# Altium integrated library Analog Devices RF IF Timing ICs and Clocks.IntLib: 168 symbols (part 12 of 18)
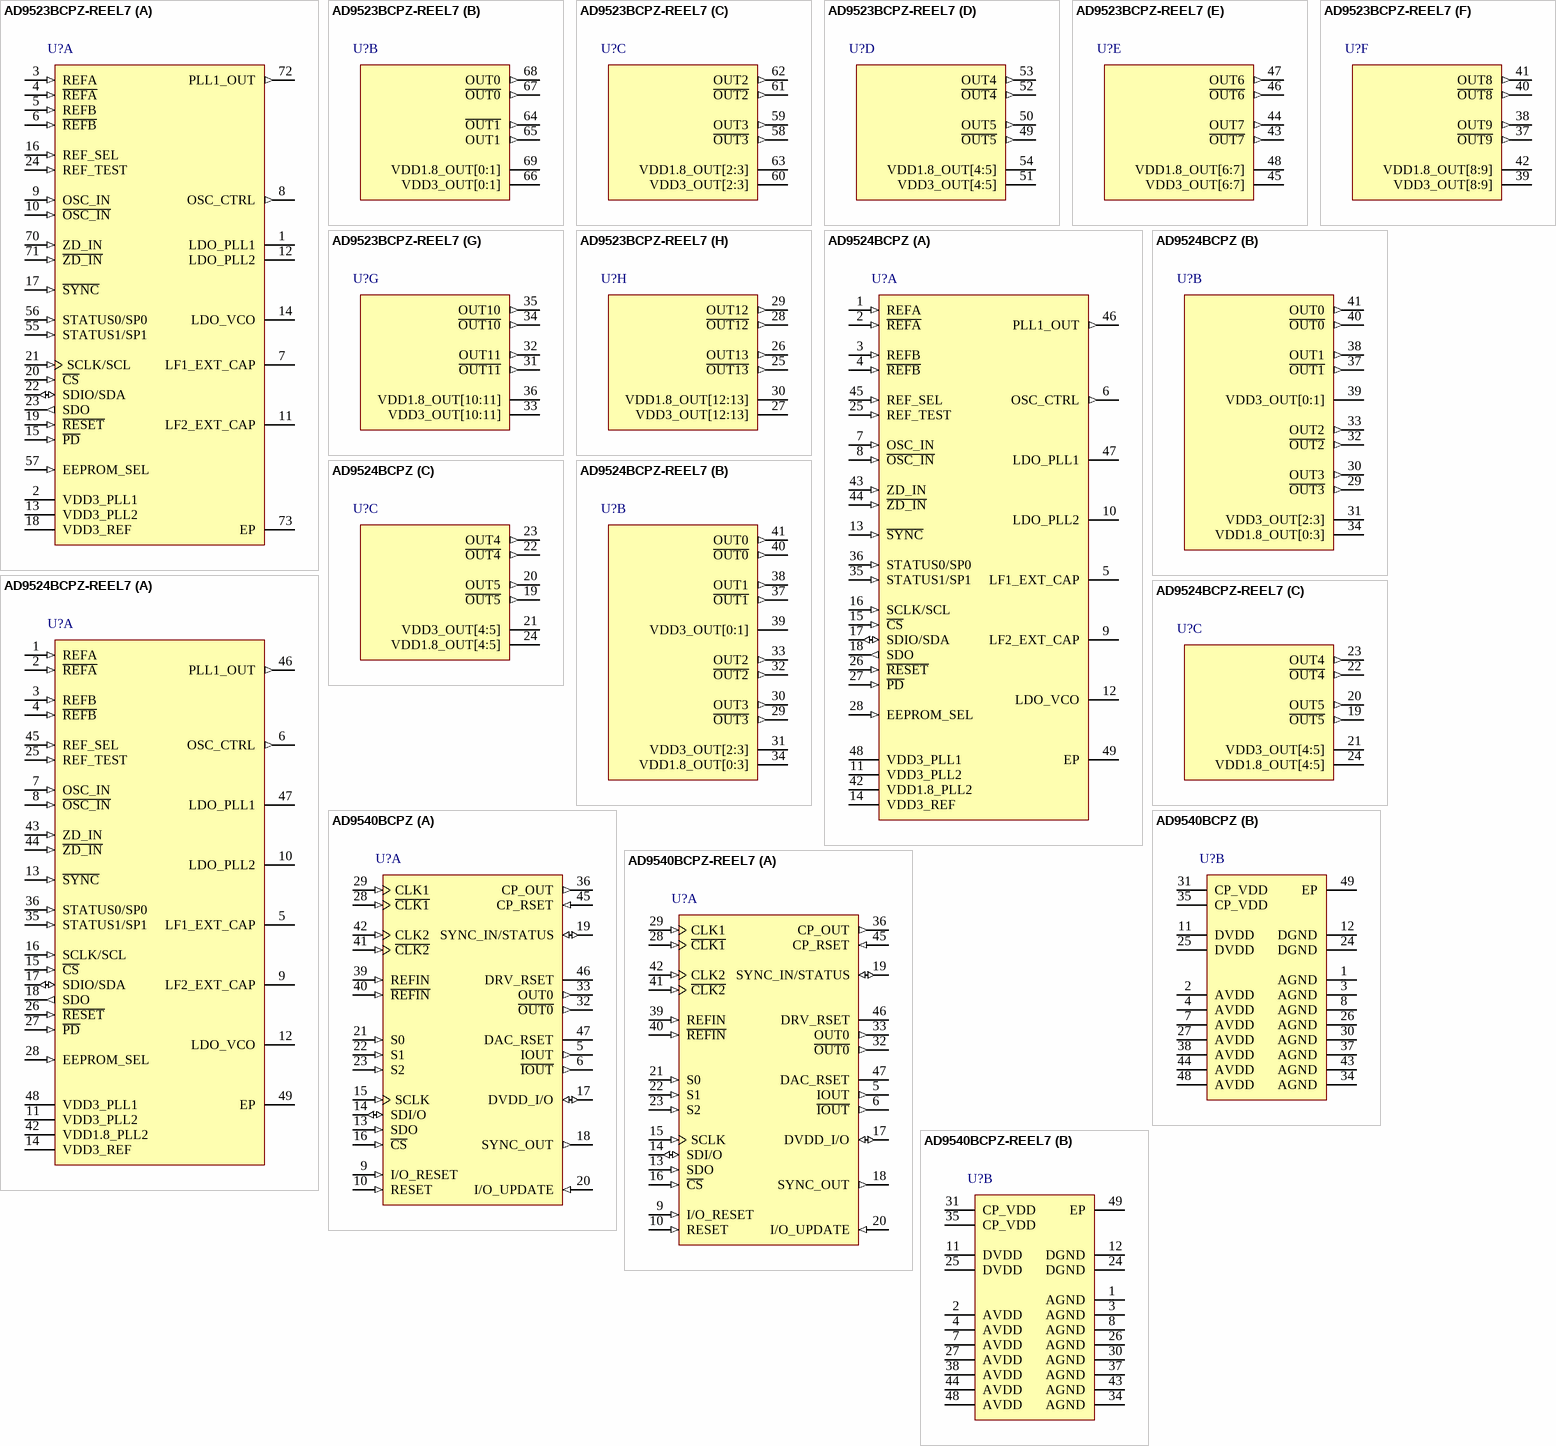
[diagram p26: symbols AD9523BCPZ-REEL7 to AD9540BCPZ-REEL7]

## AD9524BCPZ
designator U?
Low Jitter Clock Generator with 6 LVPECL/LVDS/HSTL/13 LVCMOS Outputs, CP-48-1, Pb-Free, 260 Tray; Product Description: Low Jitter, Dual loop Clock Generator; +Supply Voltage (V): 3.3; Inputs: 2; Outputs: 14; On-Chip VCO or DCO: Yes; Max f-out (MHz): 1000; Output Logic: CMOS; HSTL; LVDS; LVPECL; DatasheetVersion: Rev. C; PackageVersion: Jan-2005; PackageReference: CP-48-1; PackageDescription: 48-Lead Lead Frame Chip Scale Package [LFCSP_VQ]; Code_JEDEC: MO-220-VKKD-2; ComponentLink1Description: Manufacturer URL; ComponentLink1URL: www.analog.com; ComponentLink2Description: Datasheet; ComponentLink2URL: http://www.analog.com/static/imported-files/data_sheets/AD9524.pdf; ComponentLink3Description: Package Specification; ComponentLink3URL: http://www.analog.com/static/imported-files/packages/PKG_PDF/LFCSP(CP)/CP-48/CP_48_1.pdf
footprint ADI-CP-48-1_N (QFN, 48-Leads, Body 7x7mm, Pitch 0.5mm, Thermal Pad 5.1x5.1mm, IPC Medium Density)
footprint ADI-CP-48-1_L (QFN, 48-Leads, Body 7x7mm, Pitch 0.5mm, Thermal Pad 5.1x5.1mm, IPC High Density)
footprint ADI-CP-48-1_M (QFN, 48-Leads, Body 7x7mm, Pitch 0.5mm, Thermal Pad 5.1x5.1mm, IPC Low Density)
part A pins: 1 REFA (in) "Reference Clock Input A. Along with R\E\F\A\, this pin is the differential input for the PLL reference. Alternatively, this pin can be programmed as a single-ended 3.3 V CMOS input.", 2 ~{REFA} (in) "Complementary Reference Clock Input A. Along with REFA, this pin is the differential input for the PLL reference. Alternatively, this pin can be programmed as a single-ended 3.3V CMOS input.", 3 REFB (in) "Reference Clock Input B. Along with R\E\F\B\, this pin is the differential input for the PLL reference.Alternatively, this pin can be programmed as a single-ended 3.3 V CMOS input.", 4 ~{REFB} (in) "Complementary Reference Clock Input B. Along with REFB, this pin is the differential input for the PLL reference. Alternatively, this pin can be programmed as a single-ended 3.3 V CMOS input.", 5 LF1_EXT_CAP "PLL1 External Loop Filter Capacitor. Connect this pin to ground.", 6 OSC_CTRL (out) "Oscillator Control Voltage. Connect to the voltage control pin of the external oscillator.", 7 OSC_IN (in) "PLL1 Oscillator Input. Along with O\S\C\_\I\N\, this pin is the differential input for the PLL reference.Alternatively, this pin can be programmed as a single-ended 3.3 V CMOS input.", 8 ~{OSC_IN} (in) "Complementary PLL1 Oscillator Input. Along with OSC_IN, this pin is the differential input for the PLL reference. Alternatively, this pin can be programmed as a single-ended 3.3 V CMOS input.", 9 LF2_EXT_CAP "PLL2 External Loop Filter Capacitor. Connect this pin to the LDO_VCO pin.", 10 LDO_PLL2 "LDO Decoupling Pin for PLL2 1.8 V Internal Regulator. Connect a 0.47 uF decoupling capacitor from this pin to ground. Note that for best performance, the LDO bypass capacitor must be placed in close proximity to the device.", 11 VDD3_PLL2 (power) "3.3 V Supply for PLL2.", 12 LDO_VCO "2.5 V LDO Internal Regulator Decoupling Pin for VCO. Connect a 0.47 uF decoupling capacitor from this pin to ground. Note that, for best performance, the LDO bypass capacitor must be placed in close proximity to the device.", 13 ~{SYNC} (in) "Manual Synchronization. This pin initiates a manual synchronization and has an internal 40 K ohm pull-up resistor.", 14 VDD3_REF (power) "3.3 V Supply for Output Clock Drivers Reference.", 15 ~{CS} (in) "Serial Control Port Chip Select, Active Low. This pin has an internal 40 K ohm pull-up resistor.", 16 SCLK/SCL (in) "Serial Control Port Clock Signal for SPI Mode (SCLK) or I2C Mode (SCL). Data clock for serial programming. This pin has an internal 40 K ohm pull-down resistor in SPI mode but is high impedance in I2C mode.", 17 SDIO/SDA (io) "Serial Control Port Bidirectional Serial Data In/Out for SPI Mode (SDIO) or I2C Mode (SDA).", 18 SDO (out) "Serial Data Output. Use this pin to read data in 4-wire mode (high impedance in 3-wire mode). There is no internal pull-up/pull-down resistor on this pin.", 25 REF_TEST (in) "Test Input to PLL1 Phase Detector.", 26 ~{RESET} (in) "Digital Input, Active Low. Resets internal logic to default states. This pin has an internal 40 K ohm pull-up resistor.", 27 ~{PD} (in) "Chip Power-Down, Active Low. This pin has an internal 40 K ohm pull-up resistor.", 28 EEPROM_SEL (in) "EEPROM Select. Setting this pin high selects the register values stored in the internal EEPROM to be loaded at reset and/or power-up. Setting this pin low causes the AD9524 to load the hard- coded default register values at power-up/reset. This pin has a", 35 STATUS1/SP1 (in) "Lock Detect and Other Status Signals (STATUS1)/I2C Address (SP1).", 36 STATUS0/SP0 (in) "Lock Detect and Other Status Signals (STATUS0)/I2C Address (SP0).", 42 VDD1.8_PLL2 (power) "1.8 V Supply for PLL2.", 43 ZD_IN (in) "External Zero Delay Clock Input. Along with Z\D\_\I\N\, this pin is the differential input for the PLL reference. Alternatively, this pin can be programmed as a single-ended 3.3 V CMOS input.", 44 ~{ZD_IN} (in) "Complementary External Zero Delay Clock Input. Along with ZD_IN, this pin is the differential input for the PLL reference. Alternatively, this pin can be programmed as a single-ended 3.3 V CMOS input.", 45 REF_SEL (in) "Reference Input Select. This pin has an internal 40 K ohm pull-down resistor.", 46 PLL1_OUT (out) "Single-Ended CMOS Output from PLL1. This pin has settings for weak and strong in Register 0x1BA, Bit 4 (see Table 51).", 47 LDO_PLL1 "1.8 V Internal LDO Regulator Decoupling Pin for PLL1. Connect a 0.47 uF decoupling capacitor from this pin to ground. Note that, for best performance, the LDO bypass capacitor must be placed in close proximity to the device.", 48 VDD3_PLL1 (power) "3.3 V Supply PLL1. Use the same supply as VCXO.", 49 EP (power) "Exposed Paddle. The exposed paddle is the ground connection on the chip. It must be soldered to the analog ground of the PCB to ensure proper functionality and heat dissipation, noise, and mechanical strength benefits."
part B pins: 29 ~{OUT3} (out) "Complementary Clock Output 3. This pin can be configured as one side of a differential LVPECL/ LVDS/HSTL output or as a single-ended CMOS output.", 30 OUT3 (out) "Square Wave Clocking Output 3. This pin can be configured as one side of a differential LVPECL/ LVDS/HSTL output or as a single-ended CMOS output.", 31 VDD3_OUT[2:3] (power) "3.3 V Supply Output 2 and Supply Output 3 Clock Drivers.", 32 ~{OUT2} (out) "Complementary Clock Output 2. This pin can be configured as one side of a differential LVPECL/ LVDS/HSTL output or as a single-ended CMOS output.", 33 OUT2 (out) "Clock Output 2. This pin can be configured as one side of a differential LVPECL/LVDS/HSTL output or as a single-ended CMOS output.", 34 VDD1.8_OUT[0:3] (power) "1.8 V Supply for Output 0, Output 1, Output 2, and Output 3 Clock Dividers.", 37 ~{OUT1} (out) "Complementary Clock Output 1. This pin can be configured as one side of a differential LVPECL/ LVDS/HSTL output or as a single-ended CMOS output.", 38 OUT1 (out) "Clock Output 1. This pin can be configured as one side of a differential LVPECL/LVDS/HSTL output or as a single-ended CMOS output.", 39 VDD3_OUT[0:1] (power) "3.3 V Supply Output 0 and Supply Output 1 Clock Drivers.", 40 ~{OUT0} (out) "Complementary Clock Output 0. This pin can be configured as one side of a differential LVPECL/ LVDS/HSTL output or as a single-ended CMOS output.", 41 OUT0 (out) "Clock Output 0. This pin can be configured as one side of a differential LVPECL/LVDS/HSTL output or as a single-ended CMOS output."
part C pins: 19 ~{OUT5} (out) "Complementary Clock Output 5. This pin can be configured as one side of a differential LVPECL/ LVDS/HSTL output or as a single-ended CMOS output.", 20 OUT5 (out) "Clock Output 5. This pin can be configured as one side of a differential LVPECL/LVDS/HSTL output or as a single-ended CMOS output.", 21 VDD3_OUT[4:5] (power) "3.3 V Supply for Output 4 and Output 5 Clock Drivers.", 22 ~{OUT4} (out) "Complementary Clock Output 4. This pin can be configured as one side of a differential LVPECL/ LVDS/HSTL output or as a single-ended CMOS output.", 23 OUT4 (out) "Clock Output 4. This pin can be configured as one side of a differential LVPECL/LVDS/HSTL output or as a single-ended CMOS output.", 24 VDD1.8_OUT[4:5] (power) "1.8 V Supply for Output 4 and Output 5 Clock Dividers."

## AD9524BCPZ-REEL7
designator U?
Low Jitter Clock Generator with 6 LVPECL/LVDS/HSTL/13 LVCMOS Outputs, CP-48-1, Pb-Free, 750 Reel; Product Description: Low Jitter, Dual loop Clock Generator; +Supply Voltage (V): 3.3; Inputs: 2; Outputs: 14; On-Chip VCO or DCO: Yes; Max f-out (MHz): 1000; Output Logic: CMOS; HSTL; LVDS; LVPECL; DatasheetVersion: Rev. C; PackageVersion: Jan-2005; PackageReference: CP-48-1; PackageDescription: 48-Lead Lead Frame Chip Scale Package [LFCSP_VQ]; Code_JEDEC: MO-220-VKKD-2; ComponentLink1Description: Manufacturer URL; ComponentLink1URL: www.analog.com; ComponentLink2Description: Datasheet; ComponentLink2URL: http://www.analog.com/static/imported-files/data_sheets/AD9524.pdf; ComponentLink3Description: Package Specification; ComponentLink3URL: http://www.analog.com/static/imported-files/packages/PKG_PDF/LFCSP(CP)/CP-48/CP_48_1.pdf
footprint ADI-CP-48-1_N (QFN, 48-Leads, Body 7x7mm, Pitch 0.5mm, Thermal Pad 5.1x5.1mm, IPC Medium Density)
footprint ADI-CP-48-1_L (QFN, 48-Leads, Body 7x7mm, Pitch 0.5mm, Thermal Pad 5.1x5.1mm, IPC High Density)
footprint ADI-CP-48-1_M (QFN, 48-Leads, Body 7x7mm, Pitch 0.5mm, Thermal Pad 5.1x5.1mm, IPC Low Density)
part A pins: 1 REFA (in) "Reference Clock Input A. Along with R\E\F\A\, this pin is the differential input for the PLL reference. Alternatively, this pin can be programmed as a single-ended 3.3 V CMOS input.", 2 ~{REFA} (in) "Complementary Reference Clock Input A. Along with REFA, this pin is the differential input for the PLL reference. Alternatively, this pin can be programmed as a single-ended 3.3V CMOS input.", 3 REFB (in) "Reference Clock Input B. Along with R\E\F\B\, this pin is the differential input for the PLL reference.Alternatively, this pin can be programmed as a single-ended 3.3 V CMOS input.", 4 ~{REFB} (in) "Complementary Reference Clock Input B. Along with REFB, this pin is the differential input for the PLL reference. Alternatively, this pin can be programmed as a single-ended 3.3 V CMOS input.", 5 LF1_EXT_CAP "PLL1 External Loop Filter Capacitor. Connect this pin to ground.", 6 OSC_CTRL (out) "Oscillator Control Voltage. Connect to the voltage control pin of the external oscillator.", 7 OSC_IN (in) "PLL1 Oscillator Input. Along with O\S\C\_\I\N\, this pin is the differential input for the PLL reference.Alternatively, this pin can be programmed as a single-ended 3.3 V CMOS input.", 8 ~{OSC_IN} (in) "Complementary PLL1 Oscillator Input. Along with OSC_IN, this pin is the differential input for the PLL reference. Alternatively, this pin can be programmed as a single-ended 3.3 V CMOS input.", 9 LF2_EXT_CAP "PLL2 External Loop Filter Capacitor. Connect this pin to the LDO_VCO pin.", 10 LDO_PLL2 "LDO Decoupling Pin for PLL2 1.8 V Internal Regulator. Connect a 0.47 uF decoupling capacitor from this pin to ground. Note that for best performance, the LDO bypass capacitor must be placed in close proximity to the device.", 11 VDD3_PLL2 (power) "3.3 V Supply for PLL2.", 12 LDO_VCO "2.5 V LDO Internal Regulator Decoupling Pin for VCO. Connect a 0.47 uF decoupling capacitor from this pin to ground. Note that, for best performance, the LDO bypass capacitor must be placed in close proximity to the device.", 13 ~{SYNC} (in) "Manual Synchronization. This pin initiates a manual synchronization and has an internal 40 K ohm pull-up resistor.", 14 VDD3_REF (power) "3.3 V Supply for Output Clock Drivers Reference.", 15 ~{CS} (in) "Serial Control Port Chip Select, Active Low. This pin has an internal 40 K ohm pull-up resistor.", 16 SCLK/SCL (in) "Serial Control Port Clock Signal for SPI Mode (SCLK) or I2C Mode (SCL). Data clock for serial programming. This pin has an internal 40 K ohm pull-down resistor in SPI mode but is high impedance in I2C mode.", 17 SDIO/SDA (io) "Serial Control Port Bidirectional Serial Data In/Out for SPI Mode (SDIO) or I2C Mode (SDA).", 18 SDO (out) "Serial Data Output. Use this pin to read data in 4-wire mode (high impedance in 3-wire mode). There is no internal pull-up/pull-down resistor on this pin.", 25 REF_TEST (in) "Test Input to PLL1 Phase Detector.", 26 ~{RESET} (in) "Digital Input, Active Low. Resets internal logic to default states. This pin has an internal 40 K ohm pull-up resistor.", 27 ~{PD} (in) "Chip Power-Down, Active Low. This pin has an internal 40 K ohm pull-up resistor.", 28 EEPROM_SEL (in) "EEPROM Select. Setting this pin high selects the register values stored in the internal EEPROM to be loaded at reset and/or power-up. Setting this pin low causes the AD9524 to load the hard- coded default register values at power-up/reset. This pin has a", 35 STATUS1/SP1 (in) "Lock Detect and Other Status Signals (STATUS1)/I2C Address (SP1).", 36 STATUS0/SP0 (in) "Lock Detect and Other Status Signals (STATUS0)/I2C Address (SP0).", 42 VDD1.8_PLL2 (power) "1.8 V Supply for PLL2.", 43 ZD_IN (in) "External Zero Delay Clock Input. Along with Z\D\_\I\N\, this pin is the differential input for the PLL reference. Alternatively, this pin can be programmed as a single-ended 3.3 V CMOS input.", 44 ~{ZD_IN} (in) "Complementary External Zero Delay Clock Input. Along with ZD_IN, this pin is the differential input for the PLL reference. Alternatively, this pin can be programmed as a single-ended 3.3 V CMOS input.", 45 REF_SEL (in) "Reference Input Select. This pin has an internal 40 K ohm pull-down resistor.", 46 PLL1_OUT (out) "Single-Ended CMOS Output from PLL1. This pin has settings for weak and strong in Register 0x1BA, Bit 4 (see Table 51).", 47 LDO_PLL1 "1.8 V Internal LDO Regulator Decoupling Pin for PLL1. Connect a 0.47 uF decoupling capacitor from this pin to ground. Note that, for best performance, the LDO bypass capacitor must be placed in close proximity to the device.", 48 VDD3_PLL1 (power) "3.3 V Supply PLL1. Use the same supply as VCXO.", 49 EP (power) "Exposed Paddle. The exposed paddle is the ground connection on the chip. It must be soldered to the analog ground of the PCB to ensure proper functionality and heat dissipation, noise, and mechanical strength benefits."
part B pins: 29 ~{OUT3} (out) "Complementary Clock Output 3. This pin can be configured as one side of a differential LVPECL/ LVDS/HSTL output or as a single-ended CMOS output.", 30 OUT3 (out) "Square Wave Clocking Output 3. This pin can be configured as one side of a differential LVPECL/ LVDS/HSTL output or as a single-ended CMOS output.", 31 VDD3_OUT[2:3] (power) "3.3 V Supply Output 2 and Supply Output 3 Clock Drivers.", 32 ~{OUT2} (out) "Complementary Clock Output 2. This pin can be configured as one side of a differential LVPECL/ LVDS/HSTL output or as a single-ended CMOS output.", 33 OUT2 (out) "Clock Output 2. This pin can be configured as one side of a differential LVPECL/LVDS/HSTL output or as a single-ended CMOS output.", 34 VDD1.8_OUT[0:3] (power) "1.8 V Supply for Output 0, Output 1, Output 2, and Output 3 Clock Dividers.", 37 ~{OUT1} (out) "Complementary Clock Output 1. This pin can be configured as one side of a differential LVPECL/ LVDS/HSTL output or as a single-ended CMOS output.", 38 OUT1 (out) "Clock Output 1. This pin can be configured as one side of a differential LVPECL/LVDS/HSTL output or as a single-ended CMOS output.", 39 VDD3_OUT[0:1] (power) "3.3 V Supply Output 0 and Supply Output 1 Clock Drivers.", 40 ~{OUT0} (out) "Complementary Clock Output 0. This pin can be configured as one side of a differential LVPECL/ LVDS/HSTL output or as a single-ended CMOS output.", 41 OUT0 (out) "Clock Output 0. This pin can be configured as one side of a differential LVPECL/LVDS/HSTL output or as a single-ended CMOS output."
part C pins: 19 ~{OUT5} (out) "Complementary Clock Output 5. This pin can be configured as one side of a differential LVPECL/ LVDS/HSTL output or as a single-ended CMOS output.", 20 OUT5 (out) "Clock Output 5. This pin can be configured as one side of a differential LVPECL/LVDS/HSTL output or as a single-ended CMOS output.", 21 VDD3_OUT[4:5] (power) "3.3 V Supply for Output 4 and Output 5 Clock Drivers.", 22 ~{OUT4} (out) "Complementary Clock Output 4. This pin can be configured as one side of a differential LVPECL/ LVDS/HSTL output or as a single-ended CMOS output.", 23 OUT4 (out) "Clock Output 4. This pin can be configured as one side of a differential LVPECL/LVDS/HSTL output or as a single-ended CMOS output.", 24 VDD1.8_OUT[4:5] (power) "1.8 V Supply for Output 4 and Output 5 Clock Dividers."

## AD9540BCPZ
designator U?
655 MHz Low Jitter Clock Generator, CP-48-1, Pb-Free, 260 Tray; Product Description: Clock Generator Synchronizer; +Supply Voltage (V): 3.3; Inputs: 1; On-Chip VCO or DCO: No; Max f-out (MHz): 655; Output Logic: CML; PECL-Compliant; DatasheetVersion: Rev. A; PackageVersion: Jan-2005; PackageReference: CP-48-1; PackageDescription: 48-Lead Lead Frame Chip Scale Package [LFCSP_VQ]; Outputs: 1; Dividers: 1; Code_JEDEC: MO-220-VKKD-2; ComponentLink1Description: Manufacturer URL; ComponentLink1URL: www.analog.com; ComponentLink2Description: Datasheet; ComponentLink2URL: http://www.analog.com/static/imported-files/data_sheets/AD9540.pdf; ComponentLink3Description: Package Specification; ComponentLink3URL: http://www.analog.com/static/imported-files/packages/PKG_PDF/LFCSP(CP)/CP-48/CP_48_1.pdf
footprint ADI-CP-48-1_N (QFN, 48-Leads, Body 7x7mm, Pitch 0.5mm, Thermal Pad 5.1x5.1mm, IPC Medium Density)
footprint ADI-CP-48-1_L (QFN, 48-Leads, Body 7x7mm, Pitch 0.5mm, Thermal Pad 5.1x5.1mm, IPC High Density)
footprint ADI-CP-48-1_M (QFN, 48-Leads, Body 7x7mm, Pitch 0.5mm, Thermal Pad 5.1x5.1mm, IPC Low Density)
part A pins: 5 IOUT (out) "DAC Analog Output.", 6 ~{IOUT} (out) "DAC Analog Complementary Output.", 9 I/O_RESET (in) "Resets the serial port when synchronization is lost in communications but does not reset the device itself (active high). When not being used, this pin should be forced low, because it floats to the threshold value.", 10 RESET (in) "Master Reset. Clears all accumulators and returns all registers to their default values (active high).", 13 SDO (in) "Serial Data Output. Used only when the device is programmed for 3-wire serial data mode.", 14 SDI/O (io) "Serial Data Input/Output. When the part is programmed for 3-wire serial data mode, this is input only; in 2-wire mode, it serves as both the input and output.", 15 SCLK (in) "Serial Data Clock. Provides the clock signal for the serial data port.", 16 ~{CS} (in) "Active Low Signal That Enables Shared Serial Buses. When brought high, the serial port ignores the serial data clocks.", 17 DVDD_I/O (io) "Digital Interface Supply (3.3 V).", 18 SYNC_OUT (out) "Synchronization Clock Output.", 19 SYNC_IN/STATUS (io) "Bidirectional Dual Function Pin. Depending on device programming, this pin is either the direct digital synthesizer’s (DDS) synchronization input (allows alignment of multiple subclocks), or the PLL lock detect output signal.", 20 I/O_UPDATE (in) "This input pin, when set high, transfers the data from the I/O buffers to the internal registers on the rising edge of the internal SYNC_CLK, which can be observed on SYNC_OUT.", 21 S0 (in) "Clock Frequency and Delay Select Pins. These pins specify one of eight clock frequency/delay profiles.", 22 S1 (in) "Clock Frequency and Delay Select Pins. These pins specify one of eight clock frequency/delay profiles.", 23 S2 (in) "Clock Frequency and Delay Select Pins. These pins specify one of eight clock frequency/delay profiles.", 28 ~{CLK1} (in) "RF Divider and Internal Clock Complementary Input", 29 CLK1 (in) "RF Divider and Internal Clock Input", 32 ~{OUT0} (out) "CML Driver Complementary Output.", 33 OUT0 (out) "CML Driver Output.", 36 CP_OUT (out) "Charge Pump Output", 39 REFIN (in) "Phase Frequency Detector Reference Input.", 40 ~{REFIN} (in) "Phase Frequency Detector Reference Input.", 41 ~{CLK2} (in) "Phase Frequency Detector Oscillator (Feedback) Complementary Input.", 42 CLK2 (in) "Phase Frequency Detector Oscillator (Feedback) Input.", 45 CP_RSET (in) "Charge Pump Current Set. Program charge pump current with a resistor to AGND.", 46 DRV_RSET "CML Driver Output Current Set. Program CML output current with a resistor to AGND.", 47 DAC_RSET "DAC Output Current Set. Program DAC output current with a resistor to AGND."
part B pins: 1 AGND (power) "Analog Ground.", 2 AVDD (power) "Analog Core Supply (1.8 V).", 3 AGND (power) "Analog Ground.", 4 AVDD (power) "Power", 7 AVDD (power) "Analog Core Supply (1.8 V).", 8 AGND (power) "Analog Ground.", 11 DVDD (power) "Digital Core Supply (1.8 V).", 12 DGND (power) "Digital Ground.", 24 DGND (power) "Digital Ground.", 25 DVDD (power) "Digital Core Supply (1.8 V).", 26 AGND (power) "Analog Ground.", 27 AVDD (power) "Analog Core Supply (1.8 V).", 30 AGND (power) "Analog Ground.", 31 CP_VDD (power) "Charge Pump and CML Driver Supply Pin. 3.3 V analog (clean) supply.", 34 AGND (power) "Analog Ground.", 35 CP_VDD (power) "Charge Pump and CML Driver Supply Pin. 3.3 V analog (clean) supply.", 37 AGND (power) "Analog Ground.", 38 AVDD (power) "Analog Core Supply (1.8 V).", 43 AGND (power) "Analog Ground.", 44 AVDD (power) "Analog Core Supply (1.8 V).", 48 AVDD (power) "Analog Core Supply (1.8 V).", 49 EP (power) "The exposed paddle on this package is an electrical connection as well as a thermal enhancement. In order for the device to function properly, the paddle must be attached to analog ground."

## AD9540BCPZ-REEL7
designator U?
655 MHz Low Jitter Clock Generator, CP-48-1, Pb-Free, 750 Reel; Product Description: Clock Generator Synchronizer; +Supply Voltage (V): 3.3; Inputs: 1; On-Chip VCO or DCO: No; Max f-out (MHz): 655; Output Logic: CML; PECL-Compliant; DatasheetVersion: Rev. A; PackageVersion: Jan-2005; PackageReference: CP-48-1; PackageDescription: 48-Lead Lead Frame Chip Scale Package [LFCSP_VQ]; Outputs: 1; Dividers: 1; Code_JEDEC: MO-220-VKKD-2; ComponentLink1Description: Manufacturer URL; ComponentLink1URL: www.analog.com; ComponentLink2Description: Datasheet; ComponentLink2URL: http://www.analog.com/static/imported-files/data_sheets/AD9540.pdf; ComponentLink3Description: Package Specification; ComponentLink3URL: http://www.analog.com/static/imported-files/packages/PKG_PDF/LFCSP(CP)/CP-48/CP_48_1.pdf
footprint ADI-CP-48-1_N (QFN, 48-Leads, Body 7x7mm, Pitch 0.5mm, Thermal Pad 5.1x5.1mm, IPC Medium Density)
footprint ADI-CP-48-1_L (QFN, 48-Leads, Body 7x7mm, Pitch 0.5mm, Thermal Pad 5.1x5.1mm, IPC High Density)
footprint ADI-CP-48-1_M (QFN, 48-Leads, Body 7x7mm, Pitch 0.5mm, Thermal Pad 5.1x5.1mm, IPC Low Density)
part A pins: 5 IOUT (out) "DAC Analog Output.", 6 ~{IOUT} (out) "DAC Analog Complementary Output.", 9 I/O_RESET (in) "Resets the serial port when synchronization is lost in communications but does not reset the device itself (active high). When not being used, this pin should be forced low, because it floats to the threshold value.", 10 RESET (in) "Master Reset. Clears all accumulators and returns all registers to their default values (active high).", 13 SDO (in) "Serial Data Output. Used only when the device is programmed for 3-wire serial data mode.", 14 SDI/O (io) "Serial Data Input/Output. When the part is programmed for 3-wire serial data mode, this is input only; in 2-wire mode, it serves as both the input and output.", 15 SCLK (in) "Serial Data Clock. Provides the clock signal for the serial data port.", 16 ~{CS} (in) "Active Low Signal That Enables Shared Serial Buses. When brought high, the serial port ignores the serial data clocks.", 17 DVDD_I/O (io) "Digital Interface Supply (3.3 V).", 18 SYNC_OUT (out) "Synchronization Clock Output.", 19 SYNC_IN/STATUS (io) "Bidirectional Dual Function Pin. Depending on device programming, this pin is either the direct digital synthesizer’s (DDS) synchronization input (allows alignment of multiple subclocks), or the PLL lock detect output signal.", 20 I/O_UPDATE (in) "This input pin, when set high, transfers the data from the I/O buffers to the internal registers on the rising edge of the internal SYNC_CLK, which can be observed on SYNC_OUT.", 21 S0 (in) "Clock Frequency and Delay Select Pins. These pins specify one of eight clock frequency/delay profiles.", 22 S1 (in) "Clock Frequency and Delay Select Pins. These pins specify one of eight clock frequency/delay profiles.", 23 S2 (in) "Clock Frequency and Delay Select Pins. These pins specify one of eight clock frequency/delay profiles.", 28 ~{CLK1} (in) "RF Divider and Internal Clock Complementary Input", 29 CLK1 (in) "RF Divider and Internal Clock Input", 32 ~{OUT0} (out) "CML Driver Complementary Output.", 33 OUT0 (out) "CML Driver Output.", 36 CP_OUT (out) "Charge Pump Output", 39 REFIN (in) "Phase Frequency Detector Reference Input.", 40 ~{REFIN} (in) "Phase Frequency Detector Reference Input.", 41 ~{CLK2} (in) "Phase Frequency Detector Oscillator (Feedback) Complementary Input.", 42 CLK2 (in) "Phase Frequency Detector Oscillator (Feedback) Input.", 45 CP_RSET (in) "Charge Pump Current Set. Program charge pump current with a resistor to AGND.", 46 DRV_RSET "CML Driver Output Current Set. Program CML output current with a resistor to AGND.", 47 DAC_RSET "DAC Output Current Set. Program DAC output current with a resistor to AGND."
part B pins: 1 AGND (power) "Analog Ground.", 2 AVDD (power) "Analog Core Supply (1.8 V).", 3 AGND (power) "Analog Ground.", 4 AVDD (power) "Power", 7 AVDD (power) "Analog Core Supply (1.8 V).", 8 AGND (power) "Analog Ground.", 11 DVDD (power) "Digital Core Supply (1.8 V).", 12 DGND (power) "Digital Ground.", 24 DGND (power) "Digital Ground.", 25 DVDD (power) "Digital Core Supply (1.8 V).", 26 AGND (power) "Analog Ground.", 27 AVDD (power) "Analog Core Supply (1.8 V).", 30 AGND (power) "Analog Ground.", 31 CP_VDD (power) "Charge Pump and CML Driver Supply Pin. 3.3 V analog (clean) supply.", 34 AGND (power) "Analog Ground.", 35 CP_VDD (power) "Charge Pump and CML Driver Supply Pin. 3.3 V analog (clean) supply.", 37 AGND (power) "Analog Ground.", 38 AVDD (power) "Analog Core Supply (1.8 V).", 43 AGND (power) "Analog Ground.", 44 AVDD (power) "Analog Core Supply (1.8 V).", 48 AVDD (power) "Analog Core Supply (1.8 V).", 49 EP (power) "The exposed paddle on this package is an electrical connection as well as a thermal enhancement. In order for the device to function properly, the paddle must be attached to analog ground."

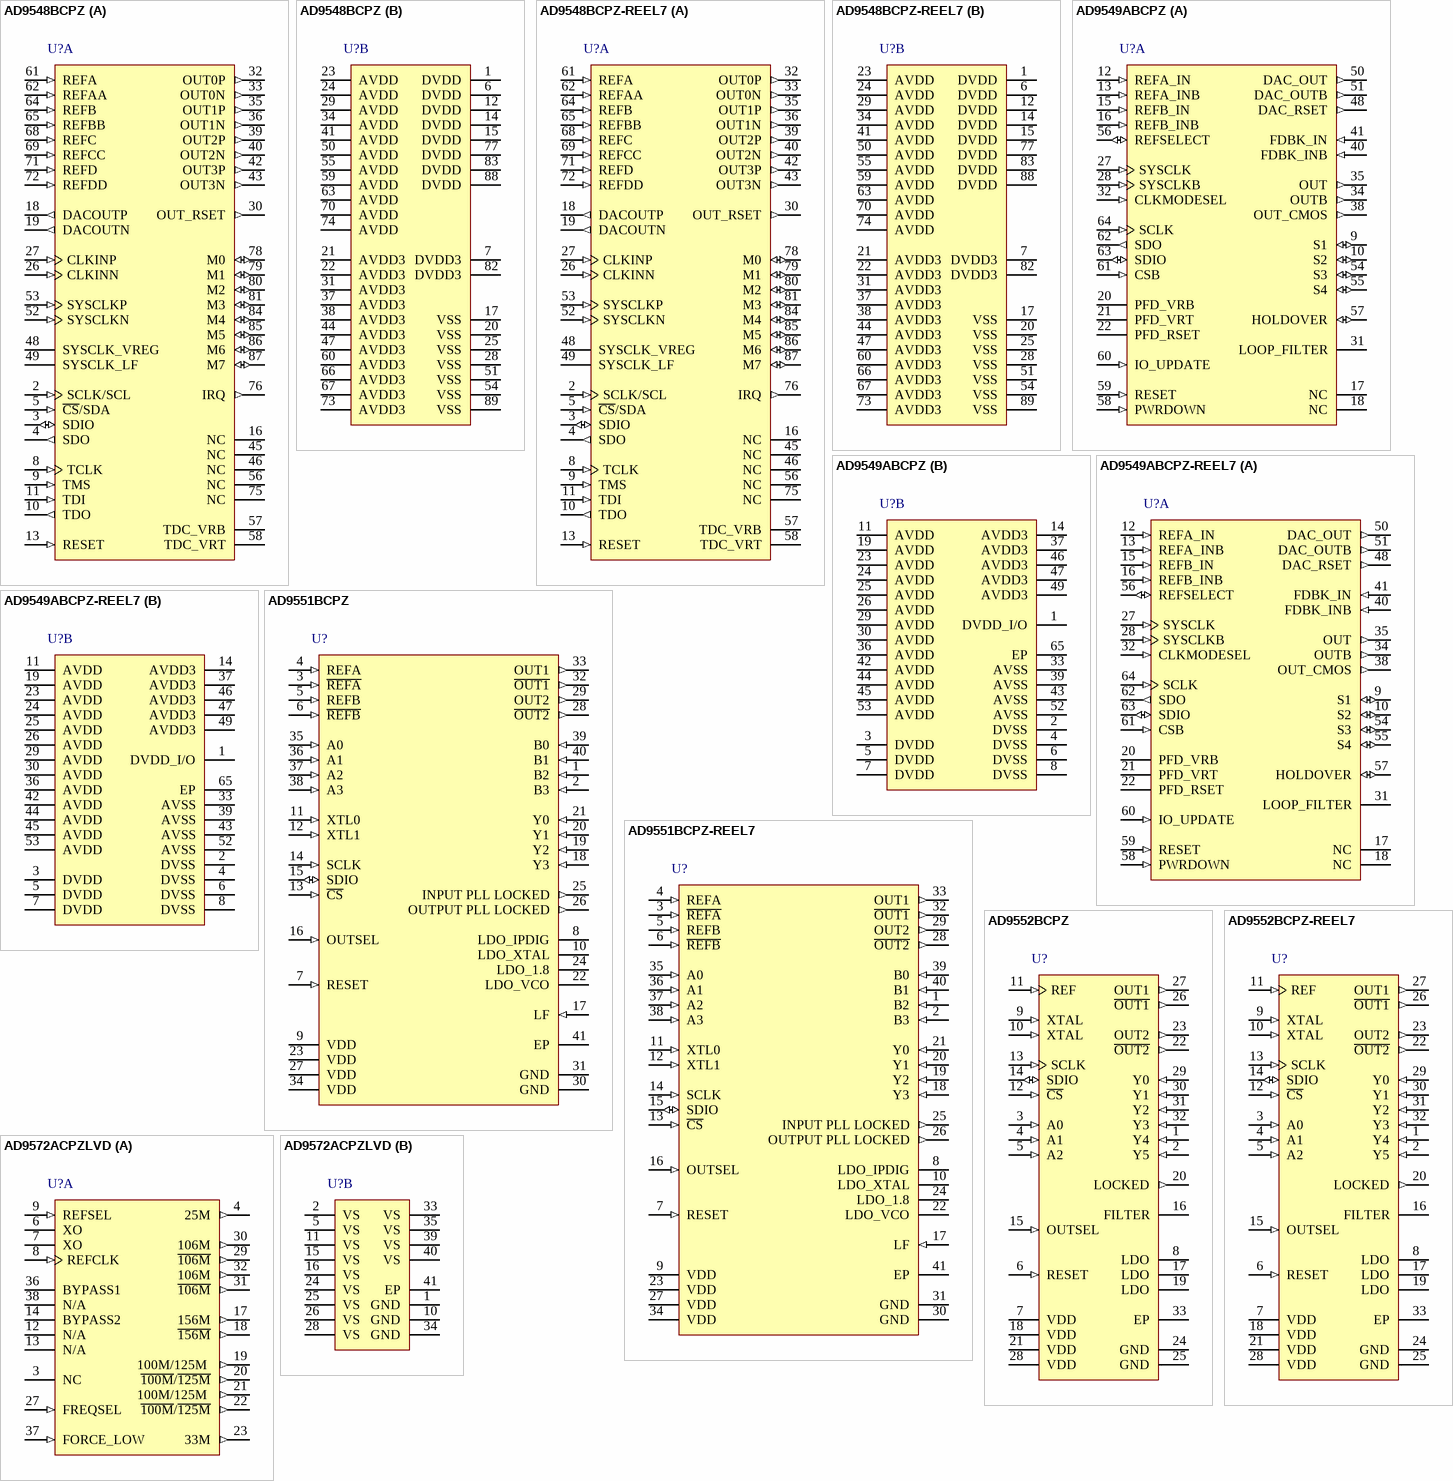
[diagram p10: symbols AD9548BCPZ to AD9572ACPZLVD]

## AD9548BCPZ
designator U?
Quad/Octal Input Network ClockGenerator/Synchronizer, CP-88-2, Pb-Free, 168 Tray; +Supply Voltage (V): 3.3; Inputs: 4; On-Chip VCO or DCO: Yes; Max f-out (MHz): 450; Output Logic: LVDS; LVPECL; DatasheetVersion: Rev. B; PackageVersion: 092707-A; PackageReference: CP-88-2; PackageDescription: 88-Lead Lead Frame Chip Scale Package [LFCSP_VQ]; Product Description: Quad/Octal Input Network Clock Generator/Synchronizer; Outputs: 4; Code_JEDEC: MO-220-VRRD; ComponentLink1Description: Manufacturer URL; ComponentLink1URL: www.analog.com; ComponentLink2Description: Datasheet; ComponentLink2URL: http://www.analog.com/static/imported-files/data_sheets/AD9548.pdf; ComponentLink3Description: Package Specification; ComponentLink3URL: http://www.analog.com/static/imported-files/packages/PKG_PDF/LFCSP(CP)/CP_88_2.pdf
footprint ADI-CP-88-2_N (QFN, 88-Leads, Body 12x12mm, Pitch 0.5mm, Thermal Pad 6x6mm, IPC Medium Density)
footprint ADI-CP-88-2_L (QFN, 88-Leads, Body 12x12mm, Pitch 0.5mm, Thermal Pad 6x6mm, IPC High Density)
footprint ADI-CP-88-2_M (QFN, 88-Leads, Body 12x12mm, Pitch 0.5mm, Thermal Pad 6x6mm, IPC Low Density)
part A pins: 2 SCLK/SCL (in) "Serial Programming Clock. Data clock for serial programming.", 3 SDIO (io) "Serial Data Input/Output. When the device is in 4-wire mode, data is written via this pin. In 3-wire mode, both data reads and writes occur on this pin. There is no internal pull-up/pull-down resistor on this pin.", 4 SDO (out) "Serial Data Output. Use this pin to read data in 4-wire mode (high impedance in 3-wire mode). There is no internal pull-up/pull-down resistor on this pin.", 5 ~{CS}/SDA (in) "Chip Select (SPI). Active low. When programming a device, this pin must be held low. In systems where more than one AD9548 is present, this pin enables individual programming of each AD9548 (in I2C® mode, this is a serial data pin). This pin has an inter", 8 TCLK (in) "JTAG Clock. Internal pull-down resistor; no connection if JTAG is not used.", 9 TMS (in) "JTAG Mode. Internal pull-up resistor; no connection if JTAG is not used.", 10 TDO (out) "JTAG Output. No connection if JTAG is not used", 11 TDI (in) "JTAG Input. Internal pull-up resistor; no connection if JTAG is not used.", 13 RESET (in) "Chip Reset. When this active high pin is asserted, the chip goes into reset. This pin has an internal 50 K ohm pull-down resistor.", 16 NC "No Connect.", 18 DACOUTP (out) "DAC Output. DACOUTP contains an internal 50  ohm pull-down resistor.", 19 DACOUTN (out) "Complementary DAC Output. DACOUTN contains an internal 50  ohm pull-down resistor.", 26 CLKINN (in) "filtered DACOUTN output. This internally biased input is typically ac-coupled and, when configured as such, can accept any differential signal whose single-ended swing is at least 400 mV.", 27 CLKINP (in) "Clock Distribution Input. In standard operating mode, this pin is connected to the filtered DACOUTP output", 30 OUT_RSET (out) "Connect an optional 3.12 K ohm resistor from this pin to ground (see the Output Current Control with an External Resistor section).", 32 OUT0P (out) "Output 0. This output can be configured as LVPECL, LVDS, or single-ended CMOS. LVPECL and LVDS operation require a 3.3 V output driver power supply. CMOS operation can be either 1.8 V or 3.3 V, depending on the output driver power supply.", 33 OUT0N (out) "Complementary Output 0. This output can be configured as LVPECL, LVDS, or single-ended CMOS.", 35 OUT1P (out) "Output 1. This output can be configured as LVPECL, LVDS, or single-ended CMOS. LVPECL and LVDS operation require a 3.3 V output driver power supply. CMOS operation can be either 1.8 V or 3.3 V, depending on the output driver power supply.", 36 OUT1N (out) "Complementary Output 1. This output can be configured as LVPECL, LVDS, or single-ended CMOS.", 39 OUT2P (out) "Output 2. This output can be configured as LVPECL, LVDS, or single-ended CMOS. LVPECL and LVDS operation require a 3.3 V output driver power supply. CMOS operation can be either 1.8 V or 3.3 V, depending on the output driver power supply.", 40 OUT2N (out) "Complementary Output 2. This output can be configured as LVPECL, LVDS, or single-ended CMOS.", 42 OUT3P (out) "Output 3. This output can be configured as LVPECL, LVDS, or single-ended CMOS. LVPECL and LVDS operation require a 3.3 V output driver power supply. CMOS operation can be either 1.8 V or 3.3 V, depending on the output driver power supply", 43 OUT3N (out) "Complementary Output 3. This output can be configured as LVPECL, LVDS, or single-ended CMOS.", 45 NC "No Connect.", 46 NC "No Connect.", 48 SYSCLK_VREG "System Clock Loop Filter Voltage Regulator. Connect a 0.1 uF capacitor from this pin to ground. This pin is also the ac ground reference for the integrated SYSCLK PLL multiplier’s external loop filter (see the SYSCLK PLL Multiplier section).", 49 SYSCLK_LF "System Clock Multiplier Loop Filter. When using the frequency multiplier to drive the system clock, an external loop filter can be attached to this pin.", 52 SYSCLKN (in) "Complementary System Clock Input. Complementary signal to SYSCLKP. SYSCLKN contains internal dc biasing and should be ac-coupled with a 0.01 uF capacitor, except when using a crystal, in which case connect the crystal across SYSCLKP and SYSCLKN.", 53 SYSCLKP (in) "System Clock Input. SYSCLKP contains internal dc biasing and should be ac-coupled with a 0.01 uF capacitor, except when using a crystal, in which case connect the crystal across SYSCLKP and SYSCLKN. Single-ended 1.8 V CMOS is also an option but can intro", 56 NC "No Connection. These pins should be left floating.", 57 TDC_VRB "Use capacitive decoupling on these pins (see Figure 38).", 58 TDC_VRT "Use capacitive decoupling on these pins (see Figure 38).", 61 REFA (in) "Reference A Input. This internally biased input is typically ac-coupled and, when configured as such, can accept any differential signal with single-ended swing up to 3.3 V. If dc-coupled, input can be LVPECL, CMOS, or LVDS.", 62 REFAA (in) "Complementary Reference A Input. Complementary signal to the input provided", 64 REFB (in) "Reference B Input. This internally biased input is typically ac-coupled and, when configured as such, can accept any differential signal with single-ended swing up to 3.3 V. If dc-coupled, input can be LVPECL, CMOS, or LVDS.", 65 REFBB (in) "Complementary Reference B Input. Complementary signal to the input provided", 68 REFC (in) "Reference C Input. This internally biased input is typically ac-coupled and, when configured as such, can accept any differential signal with single-ended swing up to 3.3 V. If dc-coupled, input can be LVPECL, CMOS, or LVDS.", 69 REFCC (in) "Complementary Reference C Input. Complementary signal to the input provided", 71 REFD (in) "Reference D Input. This internally biased input is typically ac-coupled and, when configured as such, can accept any differential signal with single-ended swing up to 3.3 V. If dc-coupled, input can be LVPECL, CMOS, or LVDS.", 72 REFDD (in) "Complementary Reference D Input. Complementary signal to the input provided", 75 NC "No Connection. These pins should be left floating.", 76 IRQ (out) "Interrupt Request Line.", 78 M0 (io) "Configurable I/O Pins. These pins are configured under program control.", 79 M1 (io) "Configurable I/O Pins. These pins are configured under program control.", 80 M2 (io) "Configurable I/O Pins. These pins are configured under program control.", 81 M3 (io) "Configurable I/O Pins. These pins are configured under program control.", 84 M4 (io) "Configurable I/O Pins. These pins are configured under program control.", 85 M5 (io) "Configurable I/O Pins. These pins are configured under program control.", 86 M6 (io) "Configurable I/O Pins. These pins are configured under program control.", 87 M7 (io) "Configurable I/O Pins. These pins are configured under program control."
part B pins: 1 DVDD (power) "1.8 V Digital Supply.", 6 DVDD (power) "1.8 V Digital Supply.", 7 DVDD3 (power) "3.3 V I/O Digital Supply.", 12 DVDD (power) "1.8 V Digital Supply.", 14 DVDD (power) "1.8 V DAC Decode Digital Supply. Keep isolated from the 1.8 V core digital supply.", 15 DVDD (power) "1.8 V DAC Decode Digital Supply. Keep isolated from the 1.8 V core digital supply.", 17 VSS (power) "Analog Ground. Connect to ground.", 20 VSS (power) "Analog Ground. Connect to ground.", 21 AVDD3 (power) "3.3 V Analog (DAC) Power Supply", 22 AVDD3 (power) "3.3 V Analog (DAC) Power Supply", 23 AVDD (power) "1.8 V Analog (DAC) Power Supply.", 24 AVDD (power) "1.8 V Analog (DAC) Power Supply.", 25 VSS (power) "Analog Ground. Connect to ground.", 28 VSS (power) "Analog Ground. Connect to ground.", 29 AVDD (power) "1.8 V Analog (Input Receiver) Power Supply.", 31 AVDD3 (power) "Analog Supply for Output Driver. These pins are normally 3.3 V but can be 1.8 V.", 34 AVDD (power) "1.8 V Analog (Output Divider) Power Supply.", 37 AVDD3 (power) "Analog Supply for Output Driver. These pins are normally 3.3 V but can be 1.8 V.", 38 AVDD3 (power) "Analog Supply for Output Driver. These pins are normally 3.3 V but can be 1.8 V.", 41 AVDD (power) "1.8 V Analog (Output Divider) Power Supply.", 44 AVDD3 (power) "Analog Supply for Output Driver. These pins are normally 3.3 V but can be 1.8 V.", 47 AVDD3 (power) "3.3 V Analog (System Clock) Power Supply.", 50 AVDD (power) "1.8 V Analog (System Clock) Power Supply.", 51 VSS (power) "Analog Ground. Connect to ground.", 54 VSS (power) "Analog Ground. Connect to ground.", 55 AVDD (power) "1.8 V Analog (System Clock) Power Supply.", 59 AVDD (power) "1.8 V Analog Power Supply.", 60 AVDD3 (power) "3.3 V Analog (Reference Input) Power Supply", 63 AVDD (power) "1.8 V Analog (Reference Input) Power Supply.", 66 AVDD3 (power) "3.3 V Analog (Reference Input) Power Supply", 67 AVDD3 (power) "3.3 V Analog (Reference Input) Power Supply", 70 AVDD (power) "1.8 V Analog (Reference Input) Power Supply.", 73 AVDD3 (power) "3.3 V Analog (Reference Input) Power Supply", 74 AVDD (power) "1.8 V Analog (Reference Input) Power Supply.", 77 DVDD (power) "1.8 V Digital Supply.", 82 DVDD3 (power) "3.3 V I/O Digital Supply.", 83 DVDD (power) "1.8 V Digital Supply.", 88 DVDD (power) "1.8 V Digital Supply.", 89 VSS (power) "The exposed pad must be connected to ground (VSS)."

## AD9548BCPZ-REEL7
designator U?
Quad/Octal Input Network ClockGenerator/Synchronizer, CP-88-2, Pb-Free, 400 Reel; +Supply Voltage (V): 3.3; Inputs: 4; On-Chip VCO or DCO: Yes; Max f-out (MHz): 450; Output Logic: LVDS; LVPECL; DatasheetVersion: Rev. B; PackageVersion: 092707-A; PackageReference: CP-88-2; PackageDescription: 88-Lead Lead Frame Chip Scale Package [LFCSP_VQ]; Product Description: Quad/Octal Input Network Clock Generator/Synchronizer; Outputs: 4; Code_JEDEC: MO-220-VRRD; ComponentLink1Description: Manufacturer URL; ComponentLink1URL: www.analog.com; ComponentLink2Description: Datasheet; ComponentLink2URL: http://www.analog.com/static/imported-files/data_sheets/AD9548.pdf; ComponentLink3Description: Package Specification; ComponentLink3URL: http://www.analog.com/static/imported-files/packages/PKG_PDF/LFCSP(CP)/CP_88_2.pdf
footprint ADI-CP-88-2_N (QFN, 88-Leads, Body 12x12mm, Pitch 0.5mm, Thermal Pad 6x6mm, IPC Medium Density)
footprint ADI-CP-88-2_L (QFN, 88-Leads, Body 12x12mm, Pitch 0.5mm, Thermal Pad 6x6mm, IPC High Density)
footprint ADI-CP-88-2_M (QFN, 88-Leads, Body 12x12mm, Pitch 0.5mm, Thermal Pad 6x6mm, IPC Low Density)
part A pins: 2 SCLK/SCL (in) "Serial Programming Clock. Data clock for serial programming.", 3 SDIO (io) "Serial Data Input/Output. When the device is in 4-wire mode, data is written via this pin. In 3-wire mode, both data reads and writes occur on this pin. There is no internal pull-up/pull-down resistor on this pin.", 4 SDO (out) "Serial Data Output. Use this pin to read data in 4-wire mode (high impedance in 3-wire mode). There is no internal pull-up/pull-down resistor on this pin.", 5 ~{CS}/SDA (in) "Chip Select (SPI). Active low. When programming a device, this pin must be held low. In systems where more than one AD9548 is present, this pin enables individual programming of each AD9548 (in I2C® mode, this is a serial data pin). This pin has an inter", 8 TCLK (in) "JTAG Clock. Internal pull-down resistor; no connection if JTAG is not used.", 9 TMS (in) "JTAG Mode. Internal pull-up resistor; no connection if JTAG is not used.", 10 TDO (out) "JTAG Output. No connection if JTAG is not used", 11 TDI (in) "JTAG Input. Internal pull-up resistor; no connection if JTAG is not used.", 13 RESET (in) "Chip Reset. When this active high pin is asserted, the chip goes into reset. This pin has an internal 50 K ohm pull-down resistor.", 16 NC "No Connect.", 18 DACOUTP (out) "DAC Output. DACOUTP contains an internal 50  ohm pull-down resistor.", 19 DACOUTN (out) "Complementary DAC Output. DACOUTN contains an internal 50  ohm pull-down resistor.", 26 CLKINN (in) "filtered DACOUTN output. This internally biased input is typically ac-coupled and, when configured as such, can accept any differential signal whose single-ended swing is at least 400 mV.", 27 CLKINP (in) "Clock Distribution Input. In standard operating mode, this pin is connected to the filtered DACOUTP output", 30 OUT_RSET (out) "Connect an optional 3.12 K ohm resistor from this pin to ground (see the Output Current Control with an External Resistor section).", 32 OUT0P (out) "Output 0. This output can be configured as LVPECL, LVDS, or single-ended CMOS. LVPECL and LVDS operation require a 3.3 V output driver power supply. CMOS operation can be either 1.8 V or 3.3 V, depending on the output driver power supply.", 33 OUT0N (out) "Complementary Output 0. This output can be configured as LVPECL, LVDS, or single-ended CMOS.", 35 OUT1P (out) "Output 1. This output can be configured as LVPECL, LVDS, or single-ended CMOS. LVPECL and LVDS operation require a 3.3 V output driver power supply. CMOS operation can be either 1.8 V or 3.3 V, depending on the output driver power supply.", 36 OUT1N (out) "Complementary Output 1. This output can be configured as LVPECL, LVDS, or single-ended CMOS.", 39 OUT2P (out) "Output 2. This output can be configured as LVPECL, LVDS, or single-ended CMOS. LVPECL and LVDS operation require a 3.3 V output driver power supply. CMOS operation can be either 1.8 V or 3.3 V, depending on the output driver power supply.", 40 OUT2N (out) "Complementary Output 2. This output can be configured as LVPECL, LVDS, or single-ended CMOS.", 42 OUT3P (out) "Output 3. This output can be configured as LVPECL, LVDS, or single-ended CMOS. LVPECL and LVDS operation require a 3.3 V output driver power supply. CMOS operation can be either 1.8 V or 3.3 V, depending on the output driver power supply", 43 OUT3N (out) "Complementary Output 3. This output can be configured as LVPECL, LVDS, or single-ended CMOS.", 45 NC "No Connect.", 46 NC "No Connect.", 48 SYSCLK_VREG "System Clock Loop Filter Voltage Regulator. Connect a 0.1 uF capacitor from this pin to ground. This pin is also the ac ground reference for the integrated SYSCLK PLL multiplier’s external loop filter (see the SYSCLK PLL Multiplier section).", 49 SYSCLK_LF "System Clock Multiplier Loop Filter. When using the frequency multiplier to drive the system clock, an external loop filter can be attached to this pin.", 52 SYSCLKN (in) "Complementary System Clock Input. Complementary signal to SYSCLKP. SYSCLKN contains internal dc biasing and should be ac-coupled with a 0.01 uF capacitor, except when using a crystal, in which case connect the crystal across SYSCLKP and SYSCLKN.", 53 SYSCLKP (in) "System Clock Input. SYSCLKP contains internal dc biasing and should be ac-coupled with a 0.01 uF capacitor, except when using a crystal, in which case connect the crystal across SYSCLKP and SYSCLKN. Single-ended 1.8 V CMOS is also an option but can intro", 56 NC "No Connection. These pins should be left floating.", 57 TDC_VRB "Use capacitive decoupling on these pins (see Figure 38).", 58 TDC_VRT "Use capacitive decoupling on these pins (see Figure 38).", 61 REFA (in) "Reference A Input. This internally biased input is typically ac-coupled and, when configured as such, can accept any differential signal with single-ended swing up to 3.3 V. If dc-coupled, input can be LVPECL, CMOS, or LVDS.", 62 REFAA (in) "Complementary Reference A Input. Complementary signal to the input provided", 64 REFB (in) "Reference B Input. This internally biased input is typically ac-coupled and, when configured as such, can accept any differential signal with single-ended swing up to 3.3 V. If dc-coupled, input can be LVPECL, CMOS, or LVDS.", 65 REFBB (in) "Complementary Reference B Input. Complementary signal to the input provided", 68 REFC (in) "Reference C Input. This internally biased input is typically ac-coupled and, when configured as such, can accept any differential signal with single-ended swing up to 3.3 V. If dc-coupled, input can be LVPECL, CMOS, or LVDS.", 69 REFCC (in) "Complementary Reference C Input. Complementary signal to the input provided", 71 REFD (in) "Reference D Input. This internally biased input is typically ac-coupled and, when configured as such, can accept any differential signal with single-ended swing up to 3.3 V. If dc-coupled, input can be LVPECL, CMOS, or LVDS.", 72 REFDD (in) "Complementary Reference D Input. Complementary signal to the input provided", 75 NC "No Connection. These pins should be left floating.", 76 IRQ (out) "Interrupt Request Line.", 78 M0 (io) "Configurable I/O Pins. These pins are configured under program control.", 79 M1 (io) "Configurable I/O Pins. These pins are configured under program control.", 80 M2 (io) "Configurable I/O Pins. These pins are configured under program control.", 81 M3 (io) "Configurable I/O Pins. These pins are configured under program control.", 84 M4 (io) "Configurable I/O Pins. These pins are configured under program control.", 85 M5 (io) "Configurable I/O Pins. These pins are configured under program control.", 86 M6 (io) "Configurable I/O Pins. These pins are configured under program control.", 87 M7 (io) "Configurable I/O Pins. These pins are configured under program control."
part B pins: 1 DVDD (power) "1.8 V Digital Supply.", 6 DVDD (power) "1.8 V Digital Supply.", 7 DVDD3 (power) "3.3 V I/O Digital Supply.", 12 DVDD (power) "1.8 V Digital Supply.", 14 DVDD (power) "1.8 V DAC Decode Digital Supply. Keep isolated from the 1.8 V core digital supply.", 15 DVDD (power) "1.8 V DAC Decode Digital Supply. Keep isolated from the 1.8 V core digital supply.", 17 VSS (power) "Analog Ground. Connect to ground.", 20 VSS (power) "Analog Ground. Connect to ground.", 21 AVDD3 (power) "3.3 V Analog (DAC) Power Supply", 22 AVDD3 (power) "3.3 V Analog (DAC) Power Supply", 23 AVDD (power) "1.8 V Analog (DAC) Power Supply.", 24 AVDD (power) "1.8 V Analog (DAC) Power Supply.", 25 VSS (power) "Analog Ground. Connect to ground.", 28 VSS (power) "Analog Ground. Connect to ground.", 29 AVDD (power) "1.8 V Analog (Input Receiver) Power Supply.", 31 AVDD3 (power) "Analog Supply for Output Driver. These pins are normally 3.3 V but can be 1.8 V.", 34 AVDD (power) "1.8 V Analog (Output Divider) Power Supply.", 37 AVDD3 (power) "Analog Supply for Output Driver. These pins are normally 3.3 V but can be 1.8 V.", 38 AVDD3 (power) "Analog Supply for Output Driver. These pins are normally 3.3 V but can be 1.8 V.", 41 AVDD (power) "1.8 V Analog (Output Divider) Power Supply.", 44 AVDD3 (power) "Analog Supply for Output Driver. These pins are normally 3.3 V but can be 1.8 V.", 47 AVDD3 (power) "3.3 V Analog (System Clock) Power Supply.", 50 AVDD (power) "1.8 V Analog (System Clock) Power Supply.", 51 VSS (power) "Analog Ground. Connect to ground.", 54 VSS (power) "Analog Ground. Connect to ground.", 55 AVDD (power) "1.8 V Analog (System Clock) Power Supply.", 59 AVDD (power) "1.8 V Analog Power Supply.", 60 AVDD3 (power) "3.3 V Analog (Reference Input) Power Supply", 63 AVDD (power) "1.8 V Analog (Reference Input) Power Supply.", 66 AVDD3 (power) "3.3 V Analog (Reference Input) Power Supply", 67 AVDD3 (power) "3.3 V Analog (Reference Input) Power Supply", 70 AVDD (power) "1.8 V Analog (Reference Input) Power Supply.", 73 AVDD3 (power) "3.3 V Analog (Reference Input) Power Supply", 74 AVDD (power) "1.8 V Analog (Reference Input) Power Supply.", 77 DVDD (power) "1.8 V Digital Supply.", 82 DVDD3 (power) "3.3 V I/O Digital Supply.", 83 DVDD (power) "1.8 V Digital Supply.", 88 DVDD (power) "1.8 V Digital Supply.", 89 VSS (power) "The exposed pad must be connected to ground (VSS)."